# EAGLE library part 2X5-90 (library JLB6_Connec)
Embase male 2x5
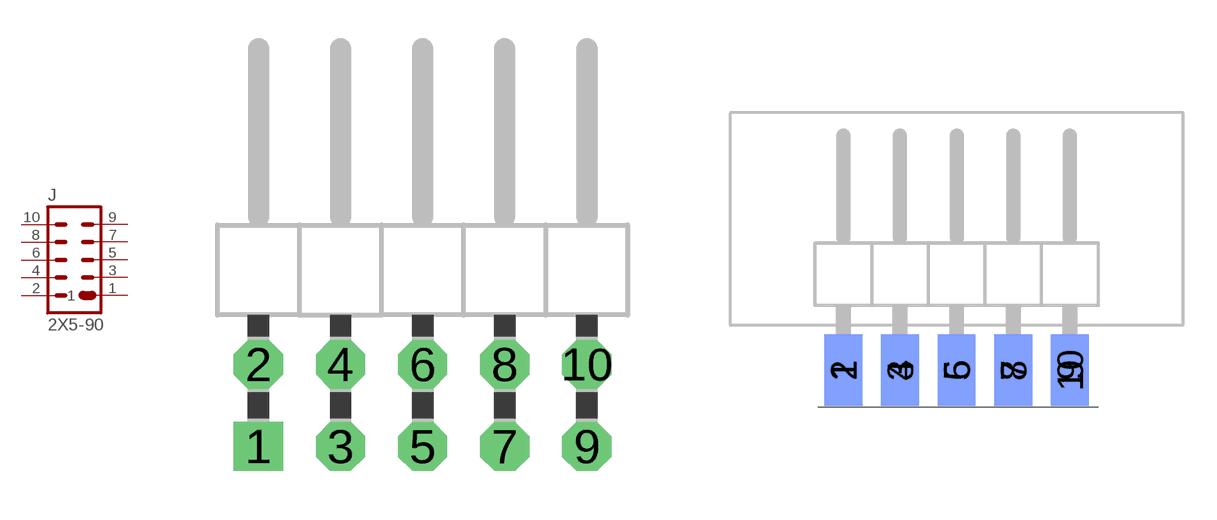
[diagram p4: symbol with the pads of 2X5-90; footprints 2X5-90, 2X5-EDGE-B]

Designator prefix J

## 2X5-90SIMPLE  [2X5-90]
1  1  pas
2  2  pas
3  3  pas
4  4  pas
5  5  pas
6  6  pas
7  7  pas
8  8  pas
9  9  pas
10  10  pas

## 2X5-90EDGE  [2X5-EDGE-B]
Pads as for 2X5-90

## 2X5-90CORPS  [2X5-90-B]
Pads as for 2X5-90

## Footprint 2X5-90 (pad centres in mm)
drill 1.016 square: 1 -5.08,-1.27
drill 1.016 octagon: 2 -5.08,1.27; 3 -2.54,-1.27; 4 -2.54,1.27; 5 0,-1.27; 6 0,1.27; 7 2.54,-1.27; 8 2.54,1.27; 9 5.08,-1.27; 10 5.08,1.27

## Footprint 2X5-EDGE-B (pad centres in mm)
smd 1.7 x 3.2: 1 -5.08,-0.127; 3 -2.54,-0.127; 5 0,-0.127; 7 2.54,-0.127; 9 5.08,-0.127
smd 1.7 x 3.2 bottom: 2 -5.08,-0.127; 4 -2.54,-0.127; 6 0,-0.127; 8 2.54,-0.127; 10 5.08,-0.127

## Footprint 2X5-90-B (pad centres in mm)
drill 1.016 square: 1 -5.08,-1.27
drill 1.016 octagon: 2 -5.08,1.27; 3 -2.54,-1.27; 4 -2.54,1.27; 5 0,-1.27; 6 0,1.27; 7 2.54,-1.27; 8 2.54,1.27; 9 5.08,-1.27; 10 5.08,1.27